# Altium integrated library STMicroelectronics STM8L.IntLib: 79 symbols (part 3 of 3)
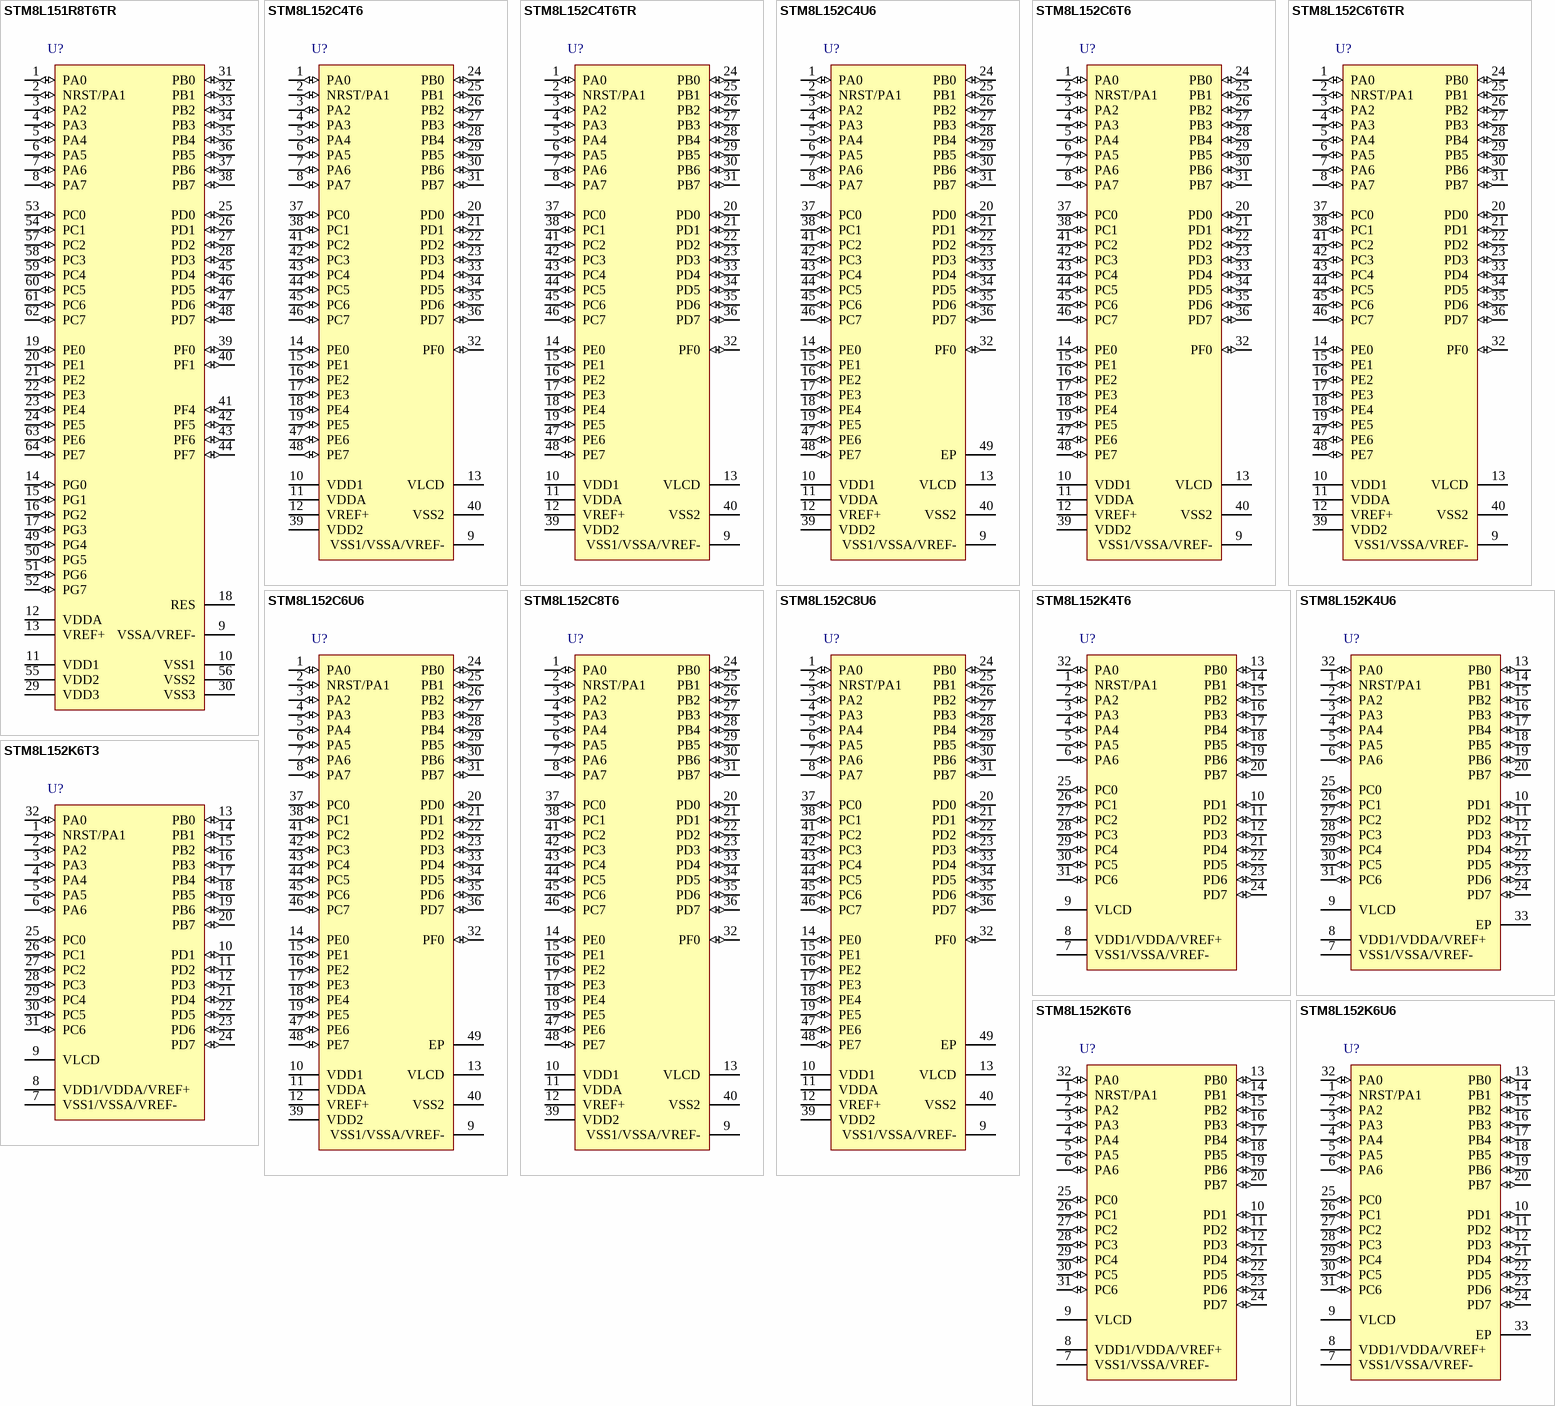
[diagram p7: symbols STM8L151R8T6TR to STM8L152K6U6]

## STM8L152K6T3
designator U?
STM8L ARM-based EnergyLite 8-bit MCU, LCD, 32 kB Flash, 2 kB Internal RAM, -40 to +125°C Temperature, 32-pin LQFP, Tray; PackageVersion: 2010; PackageReference: LQFP32; PackageDescription: 32-Pin Low Profile Quad Flat Pack, 7 x 7 mm Body, 0.8 mm Pitch; ComponentLink1Description: Manufacturer URL; ComponentLink1URL: http://www.st.com/; ComponentLink2Description: STM8L151/152,x4,x6 Datasheet; ComponentLink2URL: http://www.st.com/internet/com/TECHNICAL_RESOURCES/TECHNICAL_LITERATURE/DATASHEET/CD00240181.pdf; ComponentLink3Description: STM8L Family Web Page; ComponentLink3URL: http://www.st.com/internet/mcu/subclass/1381.jsp
footprint LQFP32_N (Manufacturer "STMicroelectronics" not found)
footprint LQFP32_L (Thin QFP, 32-Leads, Body 7x7mm, Pitch 0.8mm, IPC High Density)
footprint LQFP32_M (Thin QFP, 32-Leads, Body 7x7mm, Pitch 0.8mm, IPC Low Density)
pins: 1 NRST/PA1 (io), 2 PA2 (io), 3 PA3 (io), 4 PA4 (io), 5 PA5 (io), 6 PA6 (io), 7 VSS1/VSSA/VREF- (power), 8 VDD1/VDDA/VREF+ (power), 9 VLCD, 10 PD1 (io), 11 PD2 (io), 12 PD3 (io), 13 PB0 (io), 14 PB1 (io), 15 PB2 (io), 16 PB3 (io), 17 PB4 (io), 18 PB5 (io), 19 PB6 (io), 20 PB7 (io), 21 PD4 (io), 22 PD5 (io), 23 PD6 (io), 24 PD7 (io), 25 PC0 (io), 26 PC1 (io), 27 PC2 (io), 28 PC3 (io), 29 PC4 (io), 30 PC5 (io), 31 PC6 (io), 32 PA0 (io)

## STM8L152K6T6
designator U?
STM8L ARM-based EnergyLite 8-bit MCU, LCD, 32 kB Flash, 2 kB Internal RAM, -40 to +85°C Temperature, 32-pin LQFP, Tray; PackageVersion: 2010; PackageReference: LQFP32; PackageDescription: 32-Pin Low Profile Quad Flat Pack, 7 x 7 mm Body, 0.8 mm Pitch; ComponentLink1Description: Manufacturer URL; ComponentLink1URL: http://www.st.com/; ComponentLink2Description: STM8L151/152,x4,x6 Datasheet; ComponentLink2URL: http://www.st.com/internet/com/TECHNICAL_RESOURCES/TECHNICAL_LITERATURE/DATASHEET/CD00240181.pdf; ComponentLink3Description: STM8L Family Web Page; ComponentLink3URL: http://www.st.com/internet/mcu/subclass/1381.jsp
footprint LQFP32_N (Manufacturer "STMicroelectronics" not found)
footprint LQFP32_L (Thin QFP, 32-Leads, Body 7x7mm, Pitch 0.8mm, IPC High Density)
footprint LQFP32_M (Thin QFP, 32-Leads, Body 7x7mm, Pitch 0.8mm, IPC Low Density)
pins: 1 NRST/PA1 (io), 2 PA2 (io), 3 PA3 (io), 4 PA4 (io), 5 PA5 (io), 6 PA6 (io), 7 VSS1/VSSA/VREF- (power), 8 VDD1/VDDA/VREF+ (power), 9 VLCD, 10 PD1 (io), 11 PD2 (io), 12 PD3 (io), 13 PB0 (io), 14 PB1 (io), 15 PB2 (io), 16 PB3 (io), 17 PB4 (io), 18 PB5 (io), 19 PB6 (io), 20 PB7 (io), 21 PD4 (io), 22 PD5 (io), 23 PD6 (io), 24 PD7 (io), 25 PC0 (io), 26 PC1 (io), 27 PC2 (io), 28 PC3 (io), 29 PC4 (io), 30 PC5 (io), 31 PC6 (io), 32 PA0 (io)

## STM8L152K6U6
designator U?
STM8L ARM-based EnergyLite 8-bit MCU, LCD, 32 kB Flash, 2 kB Internal RAM, -40 to +85°C Temperature, 32-pin UFQFPN, Tray; PackageVersion: 2010; PackageReference: UFQFPN32; PackageDescription: 32-Pin Ultra Thin Fine Pitch Quad Flat No-Lead, 5 x 5 X 0.6 mm Body, 0.5 mm Pitch, Exposed Pad; ComponentLink1Description: Manufacturer URL; ComponentLink1URL: http://www.st.com/; ComponentLink2Description: STM8L151/152,x4,x6 Datasheet; ComponentLink2URL: http://www.st.com/internet/com/TECHNICAL_RESOURCES/TECHNICAL_LITERATURE/DATASHEET/CD00240181.pdf; ComponentLink3Description: STM8L Family Web Page; ComponentLink3URL: http://www.st.com/internet/mcu/subclass/1381.jsp
footprint UFQFPN32_N (Manufacturer "STMicroelectronics" not found)
footprint UFQFPN32_L (QFN, 32-Leads, Body 5x5mm, Pitch 0.5mm, Thermal Pad 3.6x3.6mm, IPC High Density)
footprint UFQFPN32_M (QFN, 32-Leads, Body 5x5mm, Pitch 0.5mm, Thermal Pad 3.6x3.6mm, IPC Low Density)
pins: 1 NRST/PA1 (io), 2 PA2 (io), 3 PA3 (io), 4 PA4 (io), 5 PA5 (io), 6 PA6 (io), 7 VSS1/VSSA/VREF- (power), 8 VDD1/VDDA/VREF+ (power), 9 VLCD, 10 PD1 (io), 11 PD2 (io), 12 PD3 (io), 13 PB0 (io), 14 PB1 (io), 15 PB2 (io), 16 PB3 (io), 17 PB4 (io), 18 PB5 (io), 19 PB6 (io), 20 PB7 (io), 21 PD4 (io), 22 PD5 (io), 23 PD6 (io), 24 PD7 (io), 25 PC0 (io), 26 PC1 (io), 27 PC2 (io), 28 PC3 (io), 29 PC4 (io), 30 PC5 (io), 31 PC6 (io), 32 PA0 (io), 33 EP (power)

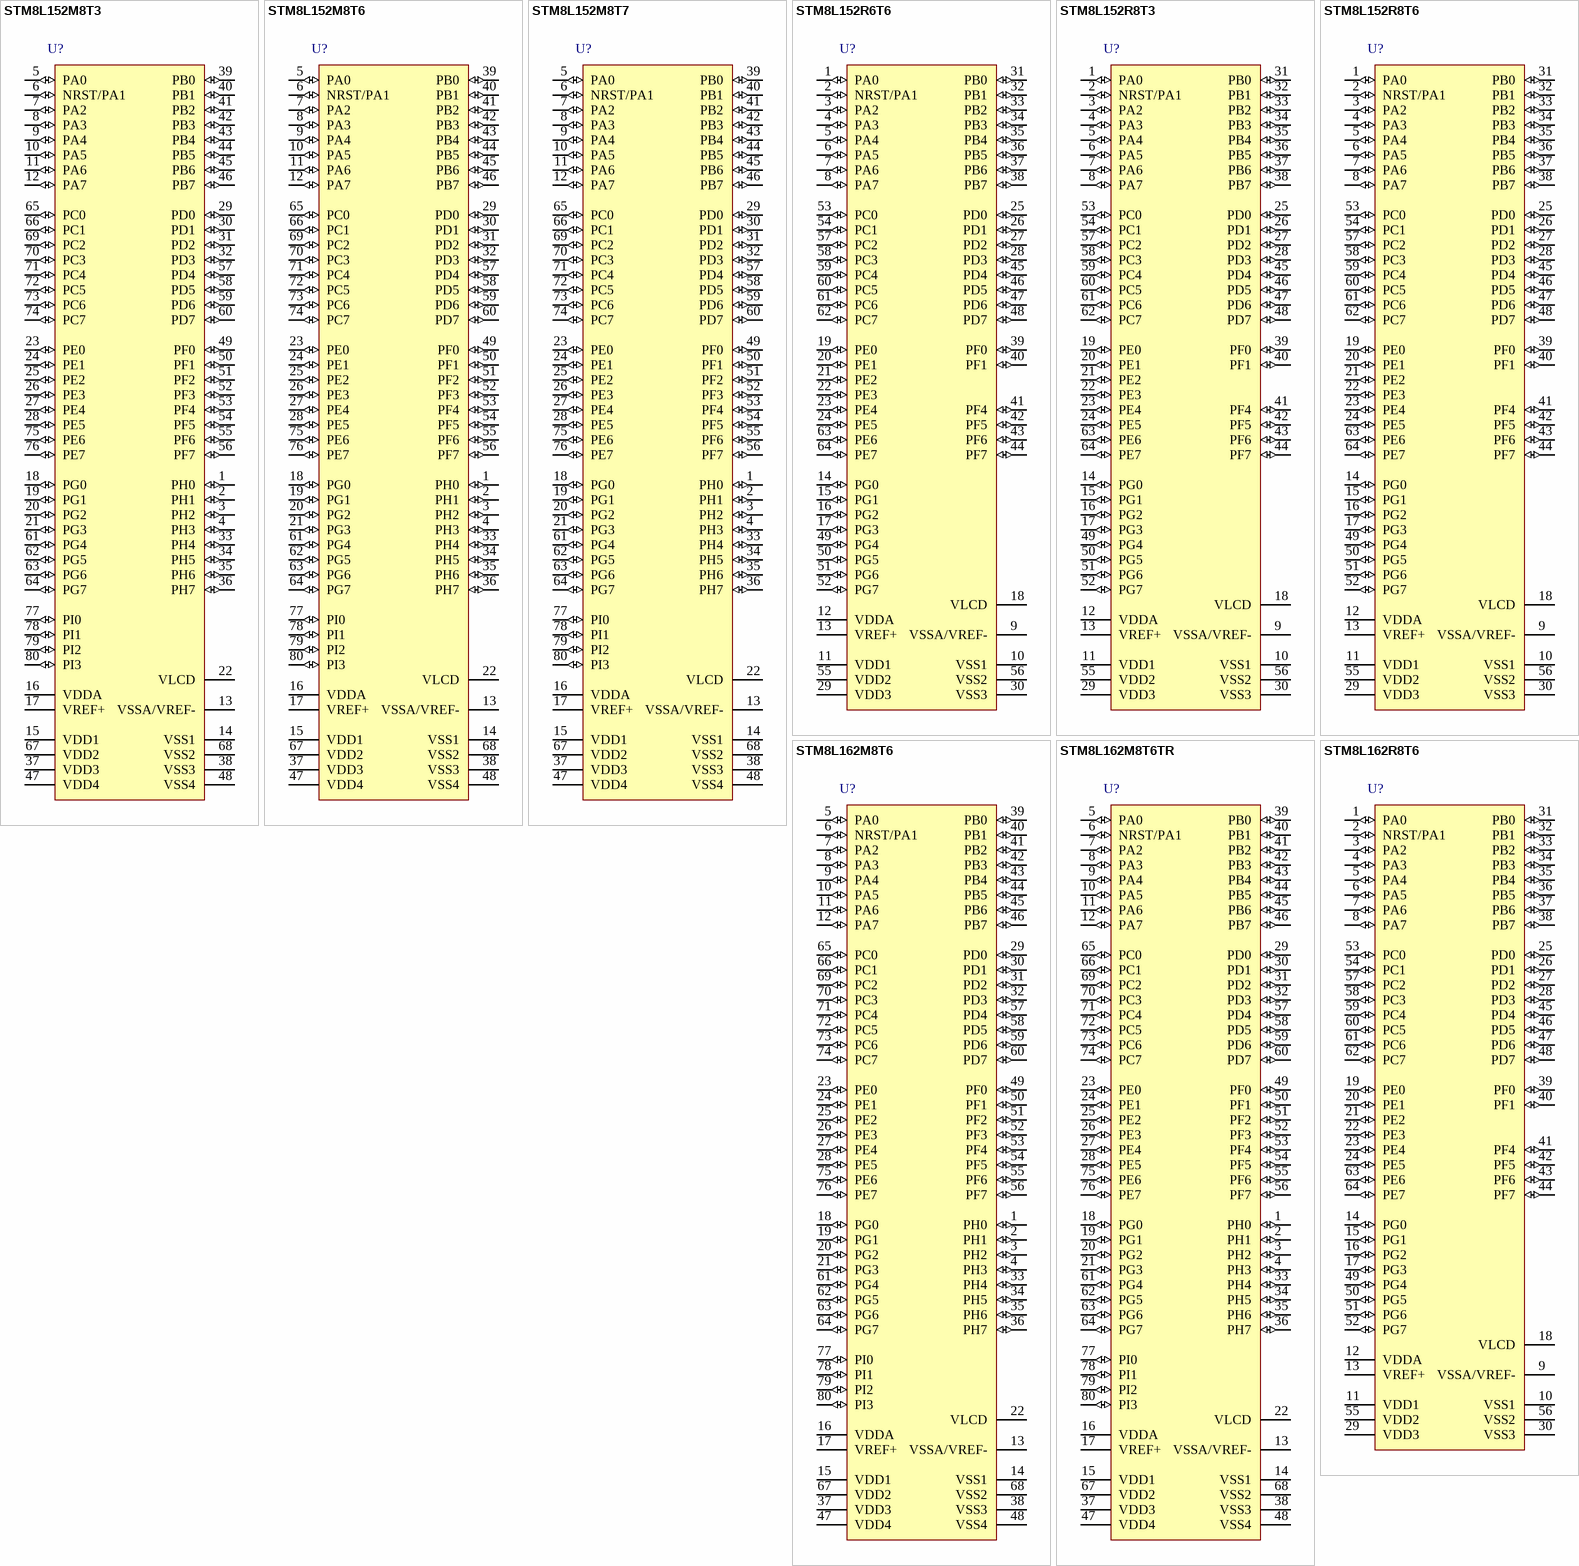
[diagram p5: symbols STM8L152M8T3 to STM8L162R8T6]

## STM8L152M8T3
designator U?
STM8L ARM-based EnergyLite 8-bit MCU, LCD, 64 kB Flash, 4 kB Internal RAM, -40 to +125°C Temperature, 80-pin LQFP, Tray; PackageVersion: 1/04/2008; PackageReference: LQFP80; PackageDescription: 80-Pin Low-Profile Quad Flat Pack, 12 x 12 mm Body, 0.5 mm Pitch (LQFP80); ComponentLink1Description: Manufacturer URL; ComponentLink1URL: http://www.st.com/; ComponentLink2Description: STM8L151/152,x8,R6 Datasheet; ComponentLink2URL: http://www.st.com/internet/com/TECHNICAL_RESOURCES/TECHNICAL_LITERATURE/DATASHEET/CD00284933.pdf; ComponentLink3Description: STM8L Family Web Page; ComponentLink3URL: http://www.st.com/internet/mcu/subclass/1381.jsp
footprint LQFP80_N (Manufacturer "STMicroelectronics" not found)
footprint LQFP80_L (Thin QFP, 80-Leads, Body 12x12mm, Pitch 0.5mm, IPC High Density)
footprint LQFP80_M (Thin QFP, 80-Leads, Body 12x12mm, Pitch 0.5mm, IPC Low Density)
pins: 1 PH0 (io), 2 PH1 (io), 3 PH2 (io), 4 PH3 (io), 5 PA0 (io), 6 NRST/PA1 (io), 7 PA2 (io), 8 PA3 (io), 9 PA4 (io), 10 PA5 (io), 11 PA6 (io), 12 PA7 (io), 13 VSSA/VREF- (power), 14 VSS1 (power), 15 VDD1 (power), 16 VDDA (power), 17 VREF+ (power), 18 PG0 (io), 19 PG1 (io), 20 PG2 (io), 21 PG3 (io), 22 VLCD, 23 PE0 (io), 24 PE1 (io), 25 PE2 (io), 26 PE3 (io), 27 PE4 (io), 28 PE5 (io), 29 PD0 (io), 30 PD1 (io), 31 PD2 (io), 32 PD3 (io), 33 PH4 (io), 34 PH5 (io), 35 PH6 (io), 36 PH7 (io), 37 VDD3 (power), 38 VSS3 (power), 39 PB0 (io), 40 PB1 (io), 41 PB2 (io), 42 PB3 (io), 43 PB4 (io), 44 PB5 (io), 45 PB6 (io), 46 PB7 (io), 47 VDD4 (power), 48 VSS4 (power), 49 PF0 (io), 50 PF1 (io), 51 PF2 (io), 52 PF3 (io), 53 PF4 (io), 54 PF5 (io), 55 PF6 (io), 56 PF7 (io), 57 PD4 (io), 58 PD5 (io), 59 PD6 (io), 60 PD7 (io), 61 PG4 (io), 62 PG5 (io), 63 PG6 (io), 64 PG7 (io), 65 PC0 (io), 66 PC1 (io), 67 VDD2 (power), 68 VSS2 (power), 69 PC2 (io), 70 PC3 (io), 71 PC4 (io), 72 PC5 (io), 73 PC6 (io), 74 PC7 (io), 75 PE6 (io), 76 PE7 (io), 77 PI0 (io), 78 PI1 (io), 79 PI2 (io), 80 PI3 (io)

## STM8L152M8T6
designator U?
STM8L ARM-based EnergyLite 8-bit MCU, LCD, 64 kB Flash, 4 kB Internal RAM, -40 to +85°C Temperature, 80-pin LQFP, Tray; PackageVersion: 1/04/2008; PackageReference: LQFP80; PackageDescription: 80-Pin Low-Profile Quad Flat Pack, 12 x 12 mm Body, 0.5 mm Pitch (LQFP80); ComponentLink1Description: Manufacturer URL; ComponentLink1URL: http://www.st.com/; ComponentLink2Description: STM8L151/152,x8,R6 Datasheet; ComponentLink2URL: http://www.st.com/internet/com/TECHNICAL_RESOURCES/TECHNICAL_LITERATURE/DATASHEET/CD00284933.pdf; ComponentLink3Description: STM8L Family Web Page; ComponentLink3URL: http://www.st.com/internet/mcu/subclass/1381.jsp
footprint LQFP80_N (Manufacturer "STMicroelectronics" not found)
footprint LQFP80_L (Thin QFP, 80-Leads, Body 12x12mm, Pitch 0.5mm, IPC High Density)
footprint LQFP80_M (Thin QFP, 80-Leads, Body 12x12mm, Pitch 0.5mm, IPC Low Density)
pins: 1 PH0 (io), 2 PH1 (io), 3 PH2 (io), 4 PH3 (io), 5 PA0 (io), 6 NRST/PA1 (io), 7 PA2 (io), 8 PA3 (io), 9 PA4 (io), 10 PA5 (io), 11 PA6 (io), 12 PA7 (io), 13 VSSA/VREF- (power), 14 VSS1 (power), 15 VDD1 (power), 16 VDDA (power), 17 VREF+ (power), 18 PG0 (io), 19 PG1 (io), 20 PG2 (io), 21 PG3 (io), 22 VLCD, 23 PE0 (io), 24 PE1 (io), 25 PE2 (io), 26 PE3 (io), 27 PE4 (io), 28 PE5 (io), 29 PD0 (io), 30 PD1 (io), 31 PD2 (io), 32 PD3 (io), 33 PH4 (io), 34 PH5 (io), 35 PH6 (io), 36 PH7 (io), 37 VDD3 (power), 38 VSS3 (power), 39 PB0 (io), 40 PB1 (io), 41 PB2 (io), 42 PB3 (io), 43 PB4 (io), 44 PB5 (io), 45 PB6 (io), 46 PB7 (io), 47 VDD4 (power), 48 VSS4 (power), 49 PF0 (io), 50 PF1 (io), 51 PF2 (io), 52 PF3 (io), 53 PF4 (io), 54 PF5 (io), 55 PF6 (io), 56 PF7 (io), 57 PD4 (io), 58 PD5 (io), 59 PD6 (io), 60 PD7 (io), 61 PG4 (io), 62 PG5 (io), 63 PG6 (io), 64 PG7 (io), 65 PC0 (io), 66 PC1 (io), 67 VDD2 (power), 68 VSS2 (power), 69 PC2 (io), 70 PC3 (io), 71 PC4 (io), 72 PC5 (io), 73 PC6 (io), 74 PC7 (io), 75 PE6 (io), 76 PE7 (io), 77 PI0 (io), 78 PI1 (io), 79 PI2 (io), 80 PI3 (io)

## STM8L152M8T7
designator U?
STM8L ARM-based EnergyLite 8-bit MCU, LCD, 64 kB Flash, 4 kB Internal RAM, -40 to +105°C Temperature, 80-pin LQFP, Tray; PackageVersion: 1/04/2008; PackageReference: LQFP80; PackageDescription: 80-Pin Low-Profile Quad Flat Pack, 12 x 12 mm Body, 0.5 mm Pitch (LQFP80); ComponentLink1Description: Manufacturer URL; ComponentLink1URL: http://www.st.com/; ComponentLink2Description: STM8L151/152,x8,R6 Datasheet; ComponentLink2URL: http://www.st.com/internet/com/TECHNICAL_RESOURCES/TECHNICAL_LITERATURE/DATASHEET/CD00284933.pdf; ComponentLink3Description: STM8L Family Web Page; ComponentLink3URL: http://www.st.com/internet/mcu/subclass/1381.jsp
footprint LQFP80_N (Manufacturer "STMicroelectronics" not found)
footprint LQFP80_L (Thin QFP, 80-Leads, Body 12x12mm, Pitch 0.5mm, IPC High Density)
footprint LQFP80_M (Thin QFP, 80-Leads, Body 12x12mm, Pitch 0.5mm, IPC Low Density)
pins: 1 PH0 (io), 2 PH1 (io), 3 PH2 (io), 4 PH3 (io), 5 PA0 (io), 6 NRST/PA1 (io), 7 PA2 (io), 8 PA3 (io), 9 PA4 (io), 10 PA5 (io), 11 PA6 (io), 12 PA7 (io), 13 VSSA/VREF- (power), 14 VSS1 (power), 15 VDD1 (power), 16 VDDA (power), 17 VREF+ (power), 18 PG0 (io), 19 PG1 (io), 20 PG2 (io), 21 PG3 (io), 22 VLCD, 23 PE0 (io), 24 PE1 (io), 25 PE2 (io), 26 PE3 (io), 27 PE4 (io), 28 PE5 (io), 29 PD0 (io), 30 PD1 (io), 31 PD2 (io), 32 PD3 (io), 33 PH4 (io), 34 PH5 (io), 35 PH6 (io), 36 PH7 (io), 37 VDD3 (power), 38 VSS3 (power), 39 PB0 (io), 40 PB1 (io), 41 PB2 (io), 42 PB3 (io), 43 PB4 (io), 44 PB5 (io), 45 PB6 (io), 46 PB7 (io), 47 VDD4 (power), 48 VSS4 (power), 49 PF0 (io), 50 PF1 (io), 51 PF2 (io), 52 PF3 (io), 53 PF4 (io), 54 PF5 (io), 55 PF6 (io), 56 PF7 (io), 57 PD4 (io), 58 PD5 (io), 59 PD6 (io), 60 PD7 (io), 61 PG4 (io), 62 PG5 (io), 63 PG6 (io), 64 PG7 (io), 65 PC0 (io), 66 PC1 (io), 67 VDD2 (power), 68 VSS2 (power), 69 PC2 (io), 70 PC3 (io), 71 PC4 (io), 72 PC5 (io), 73 PC6 (io), 74 PC7 (io), 75 PE6 (io), 76 PE7 (io), 77 PI0 (io), 78 PI1 (io), 79 PI2 (io), 80 PI3 (io)

## STM8L152R6T6
designator U?
STM8L ARM-based EnergyLite 8-bit MCU, LCD, 32 kB Flash, 2 kB Internal RAM, -40 to +85°C Temperature, 64-pin LQFP, Tray; PackageVersion: rev13, Apr-2011; PackageReference: LQFP64; PackageDescription: 64-Pin Low-Profile Quad Flat Pack, 10 x 10 mm Body, 0.5 mm Pitch (LQFP64); ComponentLink1Description: Manufacturer URL; ComponentLink1URL: http://www.st.com/; ComponentLink2Description: STM8L151/152,x8,R6 Datasheet; ComponentLink2URL: http://www.st.com/internet/com/TECHNICAL_RESOURCES/TECHNICAL_LITERATURE/DATASHEET/CD00284933.pdf; ComponentLink3Description: STM8L Family Web Page; ComponentLink3URL: http://www.st.com/internet/mcu/subclass/1381.jsp
footprint LQFP64_N (Manufacturer "STMicroelectronics" not found)
footprint LQFP64_L (Thin QFP, 64-Leads, Body 10x10mm, Pitch 0.5mm, IPC High Density)
footprint LQFP64_M (Thin QFP, 64-Leads, Body 10x10mm, Pitch 0.5mm, IPC Low Density)
pins: 1 PA0 (io), 2 NRST/PA1 (io), 3 PA2 (io), 4 PA3 (io), 5 PA4 (io), 6 PA5 (io), 7 PA6 (io), 8 PA7 (io), 9 VSSA/VREF- (power), 10 VSS1 (power), 11 VDD1 (power), 12 VDDA (power), 13 VREF+ (power), 14 PG0 (io), 15 PG1 (io), 16 PG2 (io), 17 PG3 (io), 18 VLCD, 19 PE0 (io), 20 PE1 (io), 21 PE2 (io), 22 PE3 (io), 23 PE4 (io), 24 PE5 (io), 25 PD0 (io), 26 PD1 (io), 27 PD2 (io), 28 PD3 (io), 29 VDD3 (power), 30 VSS3 (power), 31 PB0 (io), 32 PB1 (io), 33 PB2 (io), 34 PB3 (io), 35 PB4 (io), 36 PB5 (io), 37 PB6 (io), 38 PB7 (io), 39 PF0 (io), 40 PF1 (io), 41 PF4 (io), 42 PF5 (io), 43 PF6 (io), 44 PF7 (io), 45 PD4 (io), 46 PD5 (io), 47 PD6 (io), 48 PD7 (io), 49 PG4 (io), 50 PG5 (io), 51 PG6 (io), 52 PG7 (io), 53 PC0 (io), 54 PC1 (io), 55 VDD2 (power), 56 VSS2 (power), 57 PC2 (io), 58 PC3 (io), 59 PC4 (io), 60 PC5 (io), 61 PC6 (io), 62 PC7 (io), 63 PE6 (io), 64 PE7 (io)

## STM8L152R8T3
designator U?
STM8L ARM-based EnergyLite 8-bit MCU, LCD, 64 kB Flash, 4 kB Internal RAM, -40 to +125°C Temperature, 64-pin LQFP, Tray; PackageVersion: rev13, Apr-2011; PackageReference: LQFP64; PackageDescription: 64-Pin Low-Profile Quad Flat Pack, 10 x 10 mm Body, 0.5 mm Pitch (LQFP64); ComponentLink1Description: Manufacturer URL; ComponentLink1URL: http://www.st.com/; ComponentLink2Description: STM8L151/152,x8,R6 Datasheet; ComponentLink2URL: http://www.st.com/internet/com/TECHNICAL_RESOURCES/TECHNICAL_LITERATURE/DATASHEET/CD00284933.pdf; ComponentLink3Description: STM8L Family Web Page; ComponentLink3URL: http://www.st.com/internet/mcu/subclass/1381.jsp
footprint LQFP64_N (Manufacturer "STMicroelectronics" not found)
footprint LQFP64_L (Thin QFP, 64-Leads, Body 10x10mm, Pitch 0.5mm, IPC High Density)
footprint LQFP64_M (Thin QFP, 64-Leads, Body 10x10mm, Pitch 0.5mm, IPC Low Density)
pins: 1 PA0 (io), 2 NRST/PA1 (io), 3 PA2 (io), 4 PA3 (io), 5 PA4 (io), 6 PA5 (io), 7 PA6 (io), 8 PA7 (io), 9 VSSA/VREF- (power), 10 VSS1 (power), 11 VDD1 (power), 12 VDDA (power), 13 VREF+ (power), 14 PG0 (io), 15 PG1 (io), 16 PG2 (io), 17 PG3 (io), 18 VLCD, 19 PE0 (io), 20 PE1 (io), 21 PE2 (io), 22 PE3 (io), 23 PE4 (io), 24 PE5 (io), 25 PD0 (io), 26 PD1 (io), 27 PD2 (io), 28 PD3 (io), 29 VDD3 (power), 30 VSS3 (power), 31 PB0 (io), 32 PB1 (io), 33 PB2 (io), 34 PB3 (io), 35 PB4 (io), 36 PB5 (io), 37 PB6 (io), 38 PB7 (io), 39 PF0 (io), 40 PF1 (io), 41 PF4 (io), 42 PF5 (io), 43 PF6 (io), 44 PF7 (io), 45 PD4 (io), 46 PD5 (io), 47 PD6 (io), 48 PD7 (io), 49 PG4 (io), 50 PG5 (io), 51 PG6 (io), 52 PG7 (io), 53 PC0 (io), 54 PC1 (io), 55 VDD2 (power), 56 VSS2 (power), 57 PC2 (io), 58 PC3 (io), 59 PC4 (io), 60 PC5 (io), 61 PC6 (io), 62 PC7 (io), 63 PE6 (io), 64 PE7 (io)

## STM8L152R8T6
designator U?
STM8L ARM-based EnergyLite 8-bit MCU, LCD, 64 kB Flash, 4 kB Internal RAM, -40 to +85°C Temperature, 64-pin LQFP, Tray; PackageVersion: rev13, Apr-2011; PackageReference: LQFP64; PackageDescription: 64-Pin Low-Profile Quad Flat Pack, 10 x 10 mm Body, 0.5 mm Pitch (LQFP64); ComponentLink1Description: Manufacturer URL; ComponentLink1URL: http://www.st.com/; ComponentLink2Description: STM8L151/152,x8,R6 Datasheet; ComponentLink2URL: http://www.st.com/internet/com/TECHNICAL_RESOURCES/TECHNICAL_LITERATURE/DATASHEET/CD00284933.pdf; ComponentLink3Description: STM8L Family Web Page; ComponentLink3URL: http://www.st.com/internet/mcu/subclass/1381.jsp
footprint LQFP64_N (Manufacturer "STMicroelectronics" not found)
footprint LQFP64_L (Thin QFP, 64-Leads, Body 10x10mm, Pitch 0.5mm, IPC High Density)
footprint LQFP64_M (Thin QFP, 64-Leads, Body 10x10mm, Pitch 0.5mm, IPC Low Density)
pins: 1 PA0 (io), 2 NRST/PA1 (io), 3 PA2 (io), 4 PA3 (io), 5 PA4 (io), 6 PA5 (io), 7 PA6 (io), 8 PA7 (io), 9 VSSA/VREF- (power), 10 VSS1 (power), 11 VDD1 (power), 12 VDDA (power), 13 VREF+ (power), 14 PG0 (io), 15 PG1 (io), 16 PG2 (io), 17 PG3 (io), 18 VLCD, 19 PE0 (io), 20 PE1 (io), 21 PE2 (io), 22 PE3 (io), 23 PE4 (io), 24 PE5 (io), 25 PD0 (io), 26 PD1 (io), 27 PD2 (io), 28 PD3 (io), 29 VDD3 (power), 30 VSS3 (power), 31 PB0 (io), 32 PB1 (io), 33 PB2 (io), 34 PB3 (io), 35 PB4 (io), 36 PB5 (io), 37 PB6 (io), 38 PB7 (io), 39 PF0 (io), 40 PF1 (io), 41 PF4 (io), 42 PF5 (io), 43 PF6 (io), 44 PF7 (io), 45 PD4 (io), 46 PD5 (io), 47 PD6 (io), 48 PD7 (io), 49 PG4 (io), 50 PG5 (io), 51 PG6 (io), 52 PG7 (io), 53 PC0 (io), 54 PC1 (io), 55 VDD2 (power), 56 VSS2 (power), 57 PC2 (io), 58 PC3 (io), 59 PC4 (io), 60 PC5 (io), 61 PC6 (io), 62 PC7 (io), 63 PE6 (io), 64 PE7 (io)

## STM8L162M8T6
designator U?
STM8L ARM-based EnergyLite 8-bit MCU, 64 kB Flash, 4 kB Internal RAM, -40 to +85°C Temperature, 80-pin LQFP, Tray; PackageVersion: 1/04/2008; PackageReference: LQFP80; PackageDescription: 80-Pin Low-Profile Quad Flat Pack, 12 x 12 mm Body, 0.5 mm Pitch (LQFP80); ComponentLink1Description: Manufacturer URL; ComponentLink1URL: http://www.st.com/; ComponentLink2Description: STM8L162 Datasheet; ComponentLink2URL: http://www.st.com/internet/com/TECHNICAL_RESOURCES/TECHNICAL_LITERATURE/DATASHEET/CD00285168.pdf; ComponentLink3Description: STM8L Family Web Page; ComponentLink3URL: http://www.st.com/internet/mcu/subclass/1381.jsp
footprint LQFP80_N (Manufacturer "STMicroelectronics" not found)
footprint LQFP80_L (Thin QFP, 80-Leads, Body 12x12mm, Pitch 0.5mm, IPC High Density)
footprint LQFP80_M (Thin QFP, 80-Leads, Body 12x12mm, Pitch 0.5mm, IPC Low Density)
pins: 1 PH0 (io), 2 PH1 (io), 3 PH2 (io), 4 PH3 (io), 5 PA0 (io), 6 NRST/PA1 (io), 7 PA2 (io), 8 PA3 (io), 9 PA4 (io), 10 PA5 (io), 11 PA6 (io), 12 PA7 (io), 13 VSSA/VREF- (power), 14 VSS1 (power), 15 VDD1 (power), 16 VDDA (power), 17 VREF+ (power), 18 PG0 (io), 19 PG1 (io), 20 PG2 (io), 21 PG3 (io), 22 VLCD, 23 PE0 (io), 24 PE1 (io), 25 PE2 (io), 26 PE3 (io), 27 PE4 (io), 28 PE5 (io), 29 PD0 (io), 30 PD1 (io), 31 PD2 (io), 32 PD3 (io), 33 PH4 (io), 34 PH5 (io), 35 PH6 (io), 36 PH7 (io), 37 VDD3 (power), 38 VSS3 (power), 39 PB0 (io), 40 PB1 (io), 41 PB2 (io), 42 PB3 (io), 43 PB4 (io), 44 PB5 (io), 45 PB6 (io), 46 PB7 (io), 47 VDD4 (power), 48 VSS4 (power), 49 PF0 (io), 50 PF1 (io), 51 PF2 (io), 52 PF3 (io), 53 PF4 (io), 54 PF5 (io), 55 PF6 (io), 56 PF7 (io), 57 PD4 (io), 58 PD5 (io), 59 PD6 (io), 60 PD7 (io), 61 PG4 (io), 62 PG5 (io), 63 PG6 (io), 64 PG7 (io), 65 PC0 (io), 66 PC1 (io), 67 VDD2 (power), 68 VSS2 (power), 69 PC2 (io), 70 PC3 (io), 71 PC4 (io), 72 PC5 (io), 73 PC6 (io), 74 PC7 (io), 75 PE6 (io), 76 PE7 (io), 77 PI0 (io), 78 PI1 (io), 79 PI2 (io), 80 PI3 (io)

## STM8L162M8T6TR
designator U?
STM8L ARM-based EnergyLite 8-bit MCU, 64 kB Flash, 4 kB Internal RAM, -40 to +85°C Temperature, 80-pin LQFP, Tape and Reel; PackageVersion: 1/04/2008; PackageReference: LQFP80; PackageDescription: 80-Pin Low-Profile Quad Flat Pack, 12 x 12 mm Body, 0.5 mm Pitch (LQFP80); ComponentLink1Description: Manufacturer URL; ComponentLink1URL: http://www.st.com/; ComponentLink2Description: STM8L162 Datasheet; ComponentLink2URL: http://www.st.com/internet/com/TECHNICAL_RESOURCES/TECHNICAL_LITERATURE/DATASHEET/CD00285168.pdf; ComponentLink3Description: STM8L Family Web Page; ComponentLink3URL: http://www.st.com/internet/mcu/subclass/1381.jsp
footprint LQFP80_N (Manufacturer "STMicroelectronics" not found)
footprint LQFP80_L (Thin QFP, 80-Leads, Body 12x12mm, Pitch 0.5mm, IPC High Density)
footprint LQFP80_M (Thin QFP, 80-Leads, Body 12x12mm, Pitch 0.5mm, IPC Low Density)
pins: 1 PH0 (io), 2 PH1 (io), 3 PH2 (io), 4 PH3 (io), 5 PA0 (io), 6 NRST/PA1 (io), 7 PA2 (io), 8 PA3 (io), 9 PA4 (io), 10 PA5 (io), 11 PA6 (io), 12 PA7 (io), 13 VSSA/VREF- (power), 14 VSS1 (power), 15 VDD1 (power), 16 VDDA (power), 17 VREF+ (power), 18 PG0 (io), 19 PG1 (io), 20 PG2 (io), 21 PG3 (io), 22 VLCD, 23 PE0 (io), 24 PE1 (io), 25 PE2 (io), 26 PE3 (io), 27 PE4 (io), 28 PE5 (io), 29 PD0 (io), 30 PD1 (io), 31 PD2 (io), 32 PD3 (io), 33 PH4 (io), 34 PH5 (io), 35 PH6 (io), 36 PH7 (io), 37 VDD3 (power), 38 VSS3 (power), 39 PB0 (io), 40 PB1 (io), 41 PB2 (io), 42 PB3 (io), 43 PB4 (io), 44 PB5 (io), 45 PB6 (io), 46 PB7 (io), 47 VDD4 (power), 48 VSS4 (power), 49 PF0 (io), 50 PF1 (io), 51 PF2 (io), 52 PF3 (io), 53 PF4 (io), 54 PF5 (io), 55 PF6 (io), 56 PF7 (io), 57 PD4 (io), 58 PD5 (io), 59 PD6 (io), 60 PD7 (io), 61 PG4 (io), 62 PG5 (io), 63 PG6 (io), 64 PG7 (io), 65 PC0 (io), 66 PC1 (io), 67 VDD2 (power), 68 VSS2 (power), 69 PC2 (io), 70 PC3 (io), 71 PC4 (io), 72 PC5 (io), 73 PC6 (io), 74 PC7 (io), 75 PE6 (io), 76 PE7 (io), 77 PI0 (io), 78 PI1 (io), 79 PI2 (io), 80 PI3 (io)

## STM8L162R8T6
designator U?
STM8L ARM-based EnergyLite 8-bit MCU, 64 kB Flash, 4 kB Internal RAM, -40 to +85°C Temperature, 64-pin LQFP, Tray; PackageVersion: rev13, Apr-2011; PackageReference: LQFP64; PackageDescription: 64-Pin Low-Profile Quad Flat Pack, 10 x 10 mm Body, 0.5 mm Pitch (LQFP64); ComponentLink1Description: Manufacturer URL; ComponentLink1URL: http://www.st.com/; ComponentLink2Description: STM8L162 Datasheet; ComponentLink2URL: http://www.st.com/internet/com/TECHNICAL_RESOURCES/TECHNICAL_LITERATURE/DATASHEET/CD00285168.pdf; ComponentLink3Description: STM8L Family Web Page; ComponentLink3URL: http://www.st.com/internet/mcu/subclass/1381.jsp
footprint LQFP64_N (Manufacturer "STMicroelectronics" not found)
footprint LQFP64_L (Thin QFP, 64-Leads, Body 10x10mm, Pitch 0.5mm, IPC High Density)
footprint LQFP64_M (Thin QFP, 64-Leads, Body 10x10mm, Pitch 0.5mm, IPC Low Density)
pins: 1 PA0 (io), 2 NRST/PA1 (io), 3 PA2 (io), 4 PA3 (io), 5 PA4 (io), 6 PA5 (io), 7 PA6 (io), 8 PA7 (io), 9 VSSA/VREF- (power), 10 VSS1 (power), 11 VDD1 (power), 12 VDDA (power), 13 VREF+ (power), 14 PG0 (io), 15 PG1 (io), 16 PG2 (io), 17 PG3 (io), 18 VLCD, 19 PE0 (io), 20 PE1 (io), 21 PE2 (io), 22 PE3 (io), 23 PE4 (io), 24 PE5 (io), 25 PD0 (io), 26 PD1 (io), 27 PD2 (io), 28 PD3 (io), 29 VDD3 (power), 30 VSS3 (power), 31 PB0 (io), 32 PB1 (io), 33 PB2 (io), 34 PB3 (io), 35 PB4 (io), 36 PB5 (io), 37 PB6 (io), 38 PB7 (io), 39 PF0 (io), 40 PF1 (io), 41 PF4 (io), 42 PF5 (io), 43 PF6 (io), 44 PF7 (io), 45 PD4 (io), 46 PD5 (io), 47 PD6 (io), 48 PD7 (io), 49 PG4 (io), 50 PG5 (io), 51 PG6 (io), 52 PG7 (io), 53 PC0 (io), 54 PC1 (io), 55 VDD2 (power), 56 VSS2 (power), 57 PC2 (io), 58 PC3 (io), 59 PC4 (io), 60 PC5 (io), 61 PC6 (io), 62 PC7 (io), 63 PE6 (io), 64 PE7 (io)